# EAGLE library part ENC28J60 (library dooba)
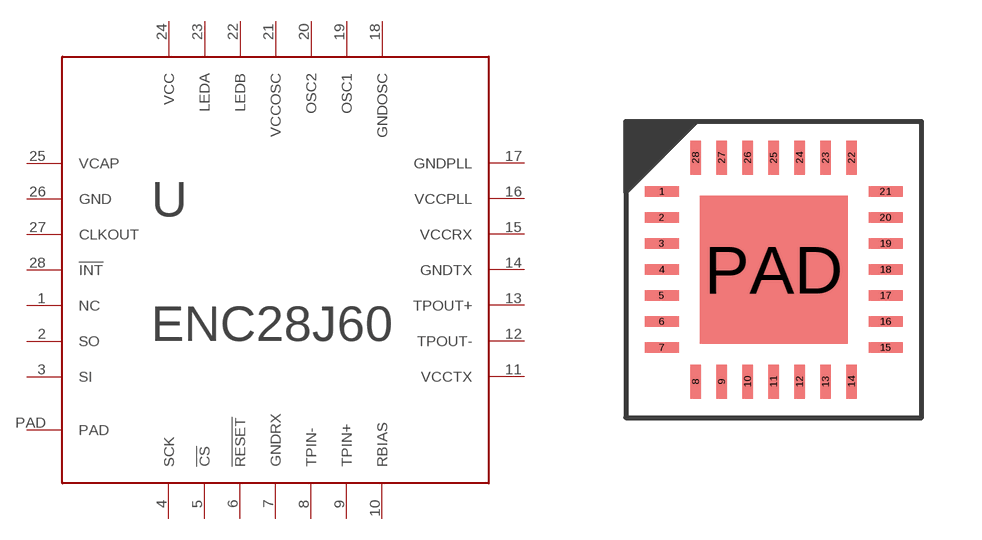
[diagram p3: symbol with the pads of 28-QFN; footprint 28-QFN]

Designator prefix U

## ENC28J6028QFN  [28-QFN]
1  NC
2  SO
3  SI
4  SCK
5  !CS
6  !RESET
7  GNDRX
8  TPIN-
9  TPIN+
10  RBIAS
11  VCCTX
12  TPOUT-
13  TPOUT+
14  GNDTX
15  VCCRX
16  VCCPLL
17  GNDPLL
18  GNDOSC
19  OSC1
20  OSC2
21  VCCOSC
22  LEDB
23  LEDA
24  VCC
25  VCAP
26  GND
27  CLKOUT
28  !INT
PAD  PAD

## Footprint 28-QFN (pad centres in mm)
smd 0.85 x 0.26: 1 -2.8,1.95; 2 -2.8,1.3; 3 -2.8,0.65; 4 -2.8,0; 5 -2.8,-0.65; 6 -2.8,-1.3; 7 -2.8,-1.95; 15 2.8,-1.95; 16 2.8,-1.3; 17 2.8,-0.65; 18 2.8,0; 19 2.8,0.65; 20 2.8,1.3; 21 2.8,1.95
smd 0.26 x 0.85: 8 -1.95,-2.8; 9 -1.3,-2.8; 10 -0.65,-2.8; 11 0,-2.8; 12 0.65,-2.8; 13 1.3,-2.8; 14 1.95,-2.8; 22 1.95,2.8; 23 1.3,2.8; 24 0.65,2.8; 25 0,2.8; 26 -0.65,2.8; 27 -1.3,2.8; 28 -1.95,2.8
smd 3.7 x 3.7: PAD 0,0